# Altium schematic symbol library NXP Semiconductors Sensors.SchLib: 94 symbols (part 3 of 4)
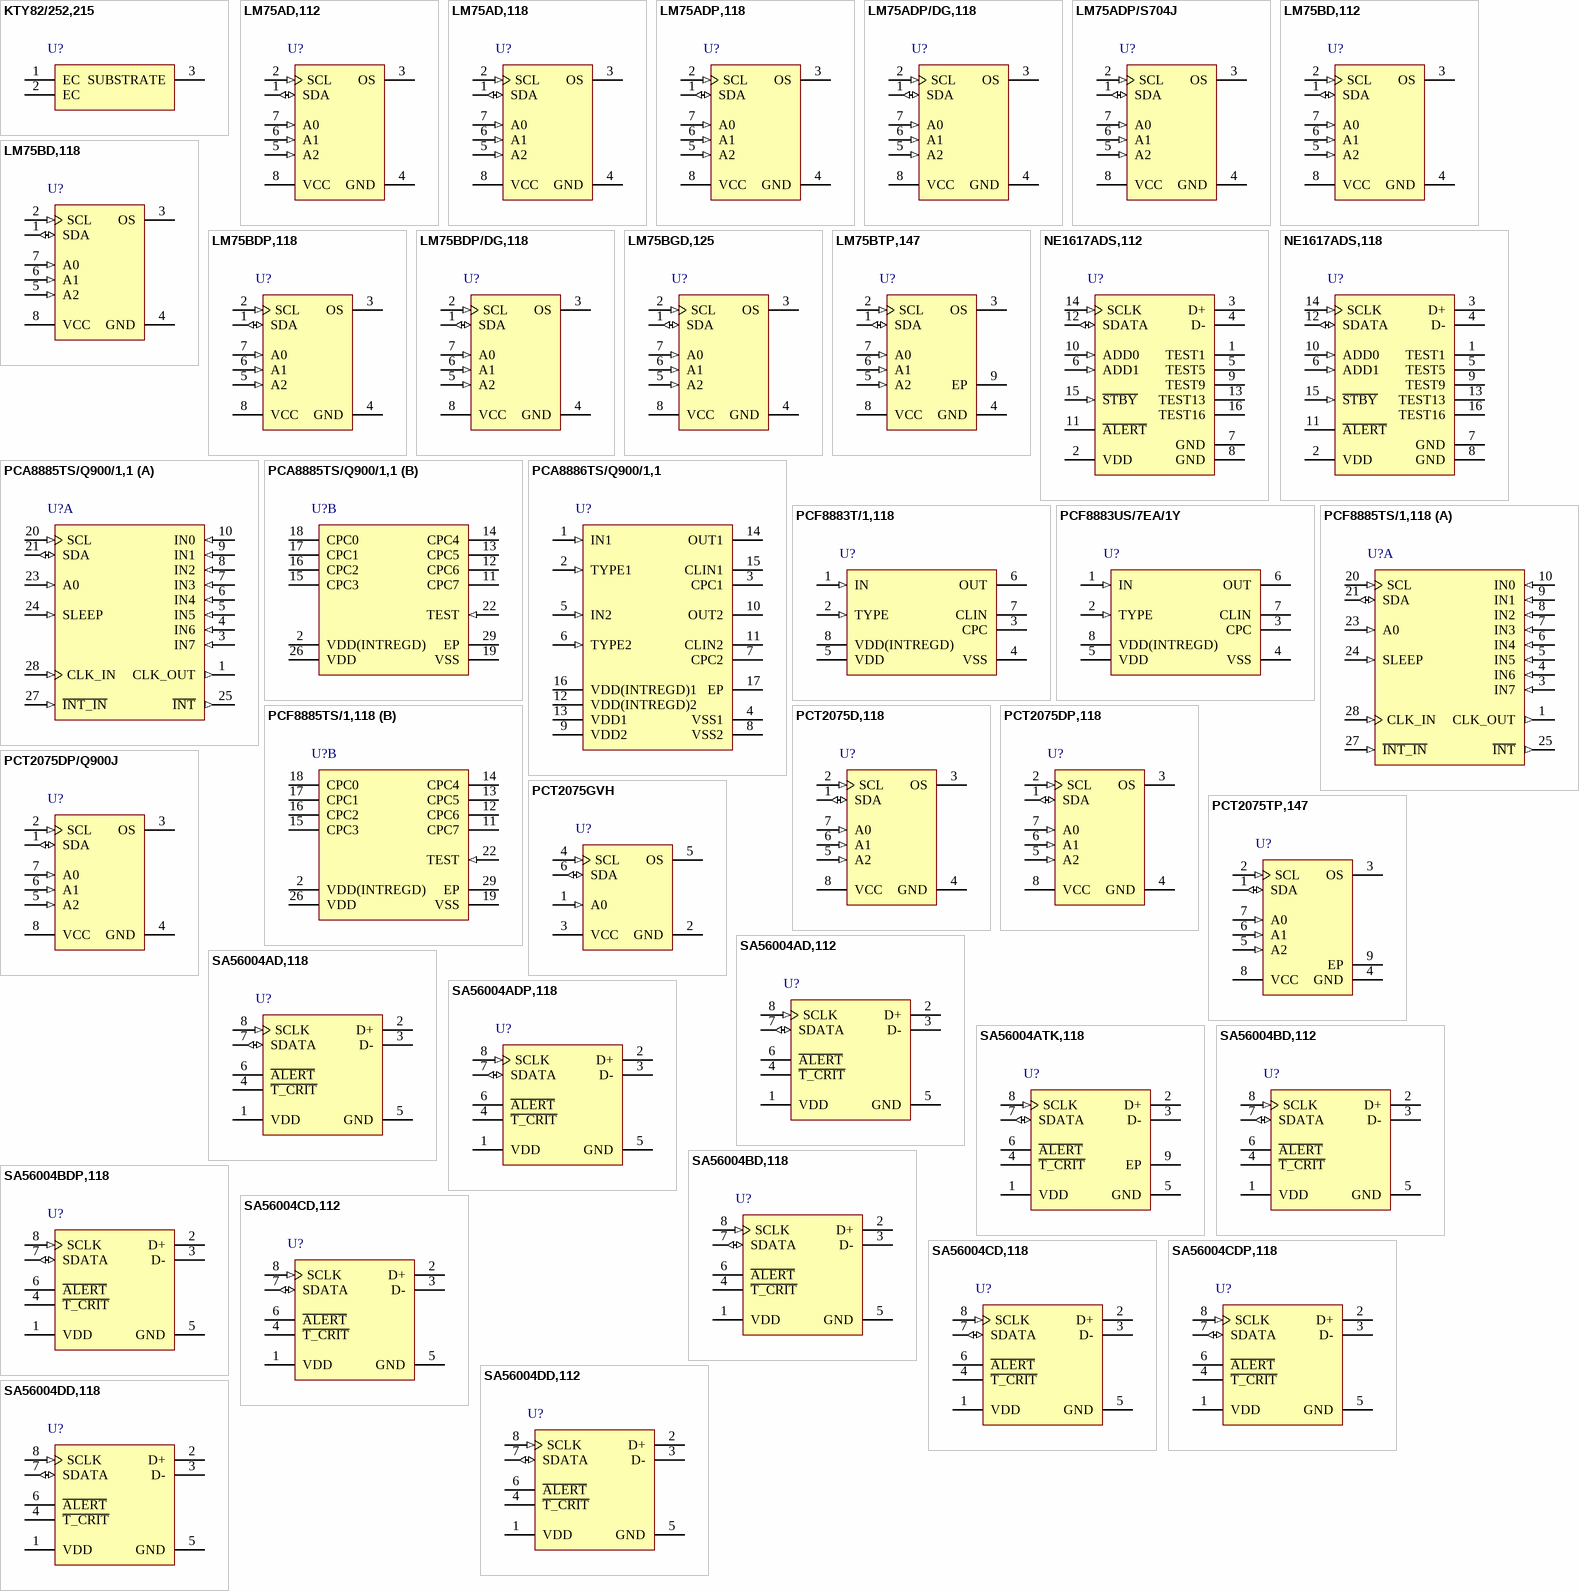
[diagram p4: symbols KTY82/252,215 to SA56004DD,118]

## SA56004AD,118
designator U?
SMBus-Compatible, Remote / Local Digital Temperature Sensor with Overtemperature Alarms, 3.0 to 5.5 V Supply, -40 to 125 degC, 8-Pin SOT96-1, RoHS, Reel; Manufacturer: NXP Semiconductors; PartNumber: SA56004AD,118; Accuracy on-chip (degC): 2@60 to 100 / 3@-40 to 125; Accuracy remote (degC): 1@60 to 100 / 3@-40 to 125; Assignable addresses: 1; SMBus clock (kHz): 400; Standby current (uA): 10; Code_IEC: 76000; DatasheetVersion: Rev. 7; PackageVersion: 03-02-18, 02/2003; PackageReference: SOT96-1; PackageDescription: 8-Pin Plastic Small Outline Package, Body 4.9 x 3.9 mm, Pitch 1.27 mm; Supplier 1: Digi-Key; Supplier Part Number 1: SA56004AD,118-ND; Supplier 2: Mouser; Supplier Part Number 2: 771-SA56004AD118; Operating Voltage (VDC): 3.0 to 5.5; Packing: Reel; Mounting Technology: Surface Mount; Code_JEDEC: MS-012; ComponentLink1Description: Manufacturer URL; ComponentLink1URL: http://www.nxp.com/; ComponentLink2Description: Datasheet; ComponentLink2URL: http://www.nxp.com/documents/data_sheet/SA56004X.pdf; ComponentLink3Description: Package Specification; ComponentLink3URL: http://www.nxp.com/documents/outline_drawing/sot096-1_po.pdf
footprint NXP-SOT96-1_N (SOIC, 8-Leads, Body 5x4mm, Pitch 1.27mm, IPC Medium Density)
footprint NXP-SOT96-1_L (SOIC, 8-Leads, Body 5x4mm, Pitch 1.27mm, IPC High Density)
footprint NXP-SOT96-1_M (SOIC, 8-Leads, Body 5x4mm, Pitch 1.27mm, IPC Low Density)
pins: 1 VDD (power) "Positive supply voltage. DC voltage from 3.0 V to 5.5 V.", 2 D+ "Diode current source (anode).", 3 D- "Diode sink current (cathode).", 4 ~{T_CRIT} (oc) "T\_\C\R\I\T\ alarm is open-drain, active LOW output which requires an external pull-up resistor. It functions as a system interrupt or power shutdown.", 5 GND (power) "Power supply ground.", 6 ~{ALERT} (oc) "A\L\E\R\T\ alarm is an open-drain, active LOW output which requires an external pull-up resistor. It functions as an interrupt indicating that the temperature of the on-chip or remote diode is above or below programmed (See Datasheet)", 7 SDATA (io) "SMBus/I2C-bus bidirectional data line. This is an open-drain output which requires an external pull-up resistor.", 8 SCLK (in) "SMBus/I2C-bus clock input which requires an external pull-up resistor."

## SA56004ADP,118
designator U?
SMBus-Compatible, Remote / Local Digital Temperature Sensor with Overtemperature Alarms, 3.0 to 5.5 V Supply, -40 to 125 degC, 8-Pin SOT505-1, RoHS, Reel; Manufacturer: NXP Semiconductors; PartNumber: SA56004ADP,118; Accuracy on-chip (degC): 2@60 to 100 / 3@-40 to 125; Accuracy remote (degC): 1@60 to 100 / 3@-40 to 125; Assignable addresses: 1; SMBus clock (kHz): 400; Standby current (uA): 10; DatasheetVersion: Rev. 7; PackageVersion: 03-02-18, 02/2003; PackageReference: SOT505-1; PackageDescription: 8-Pin Plastic Thin Shrink Small Outline Package, Body 3 x 3 mm, Pitch 0.65 mm; Supplier 1: Digi-Key; Supplier Part Number 1: 568-3330-2-ND; Supplier 2: Digi-Key; Supplier Part Number 2: 568-3330-1-ND; Supplier 3: Digi-Key; Supplier Part Number 3: 568-3330-6-ND; Supplier 4: Mouser; Supplier Part Number 4: 771-SA56004ADP-T; Operating Voltage (VDC): 3.0 to 5.5; Packing: Reel; Mounting Technology: Surface Mount; ComponentLink1Description: Manufacturer URL; ComponentLink1URL: http://www.nxp.com/; ComponentLink2Description: Datasheet; ComponentLink2URL: http://www.nxp.com/documents/data_sheet/SA56004X.pdf; ComponentLink3Description: Package Specification; ComponentLink3URL: http://www.nxp.com/documents/outline_drawing/sot505-1_po.pdf
footprint NXP-SOT505-1_N (TSOP, 8-Leads, Body 3.1x3.1mm, Pitch 0.65mm, IPC Medium Density)
footprint NXP-SOT505-1_L (TSOP, 8-Leads, Body 3.1x3.1mm, Pitch 0.65mm, IPC High Density)
footprint NXP-SOT505-1_M (TSOP, 8-Leads, Body 3.1x3.1mm, Pitch 0.65mm, IPC Low Density)
pins: 1 VDD (power) "Positive supply voltage. DC voltage from 3.0 V to 5.5 V.", 2 D+ "Diode current source (anode).", 3 D- "Diode sink current (cathode).", 4 ~{T_CRIT} (oc) "T\_\C\R\I\T\ alarm is open-drain, active LOW output which requires an external pull-up resistor. It functions as a system interrupt or power shutdown.", 5 GND (power) "Power supply ground.", 6 ~{ALERT} (oc) "A\L\E\R\T\ alarm is an open-drain, active LOW output which requires an external pull-up resistor. It functions as an interrupt indicating that the temperature of the on-chip or remote diode is above or below programmed (See Datasheet)", 7 SDATA (io) "SMBus/I2C-bus bidirectional data line. This is an open-drain output which requires an external pull-up resistor.", 8 SCLK (in) "SMBus/I2C-bus clock input which requires an external pull-up resistor."

## SA56004ATK,118
designator U?
SMBus-Compatible, Remote / Local Digital Temperature Sensor with Overtemperature Alarms, 3.0 to 5.5 V Supply, -40 to 125 degC, 8-Pin SOT782-1, RoHS, Reel; Manufacturer: NXP Semiconductors; PartNumber: SA56004ATK,118; Accuracy on-chip (degC): 2@60 to 100 / 3@-40 to 125; Accuracy remote (degC): 1@60 to 100 / 3@-40 to 125; Assignable addresses: 1; SMBus clock (kHz): 400; Standby current (uA): 10; DatasheetVersion: Rev. 7; PackageVersion: 09-08-28, 08/2009; PackageReference: SOT782-1; PackageDescription: 8-Pin Plastic Thermal Enhanced Very Thin Small Outline Package, Body 3 x 3 mm, Pitch 0.65 mm, Thermal Pad 2.4 x 1.6 mm; Supplier 1: Digi-Key; Supplier Part Number 1: 568-7580-2-ND; Supplier 2: Digi-Key; Supplier Part Number 2: 568-7580-1-ND; Supplier 3: Digi-Key; Supplier Part Number 3: 568-7580-6-ND; Supplier 4: Mouser; Supplier Part Number 4: 771-SA56004ATK,118; Operating Voltage (VDC): 3.0 to 5.5; Packing: Reel; Mounting Technology: Surface Mount; Code_JEDEC: MO-229; ComponentLink1Description: Manufacturer URL; ComponentLink1URL: http://www.nxp.com/; ComponentLink2Description: Datasheet; ComponentLink2URL: http://www.nxp.com/documents/data_sheet/SA56004X.pdf; ComponentLink3Description: Package Specification; ComponentLink3URL: http://www.nxp.com/documents/outline_drawing/sot782-1_po.pdf
footprint NXP-SOT782-1_N (PSON, 8-Leads, Body 3.1x3.1mm, Pitch 0.65mm, Thermal Pad 2.4x1.6mm, IPC Medium Density)
footprint NXP-SOT782-1_L (PSON, 8-Leads, Body 3.1x3.1mm, Pitch 0.65mm, Thermal Pad 2.4x1.6mm, IPC High Density)
footprint NXP-SOT782-1_M (PSON, 8-Leads, Body 3.1x3.1mm, Pitch 0.65mm, Thermal Pad 2.4x1.6mm, IPC Low Density)
pins: 1 VDD (power) "Positive supply voltage. DC voltage from 3.0 V to 5.5 V.", 2 D+ "Diode current source (anode).", 3 D- "Diode sink current (cathode).", 4 ~{T_CRIT} (oc) "T\_\C\R\I\T\ alarm is open-drain, active LOW output which requires an external pull-up resistor. It functions as a system interrupt or power shutdown.", 5 GND (power) "Power supply ground.", 6 ~{ALERT} (oc) "A\L\E\R\T\ alarm is an open-drain, active LOW output which requires an external pull-up resistor. It functions as an interrupt indicating that the temperature of the on-chip or remote diode is above or below programmed (See Datasheet)", 7 SDATA (io) "SMBus/I2C-bus bidirectional data line. This is an open-drain output which requires an external pull-up resistor.", 8 SCLK (in) "SMBus/I2C-bus clock input which requires an external pull-up resistor.", 9 EP

## SA56004BD,112
designator U?
SMBus-Compatible, Remote / Local Digital Temperature Sensor with Overtemperature Alarms, 3.0 to 5.5 V Supply, -40 to 125 degC, 8-Pin SOT96-1, RoHS, Tube, Bulk; Manufacturer: NXP Semiconductors; PartNumber: SA56004BD,112; Accuracy on-chip (degC): 2@60 to 100 / 3@-40 to 125; Accuracy remote (degC): 1@60 to 100 / 3@-40 to 125; Assignable addresses: 1; SMBus clock (kHz): 400; Standby current (uA): 10; Code_IEC: 76000; DatasheetVersion: Rev. 7; PackageVersion: 03-02-18, 02/2003; PackageReference: SOT96-1; PackageDescription: 8-Pin Plastic Small Outline Package, Body 4.9 x 3.9 mm, Pitch 1.27 mm; Supplier 1: Digi-Key; Supplier Part Number 1: 568-3331-5-ND; Supplier 2: Mouser; Supplier Part Number 2: 771-SA56004BD112; Operating Voltage (VDC): 3.0 to 5.5; Packing: Tube, Bulk; Mounting Technology: Surface Mount; Code_JEDEC: MS-012; ComponentLink1Description: Manufacturer URL; ComponentLink1URL: http://www.nxp.com/; ComponentLink2Description: Datasheet; ComponentLink2URL: http://www.nxp.com/documents/data_sheet/SA56004X.pdf; ComponentLink3Description: Package Specification; ComponentLink3URL: http://www.nxp.com/documents/outline_drawing/sot096-1_po.pdf
footprint NXP-SOT96-1_N (SOIC, 8-Leads, Body 5x4mm, Pitch 1.27mm, IPC Medium Density)
footprint NXP-SOT96-1_L (SOIC, 8-Leads, Body 5x4mm, Pitch 1.27mm, IPC High Density)
footprint NXP-SOT96-1_M (SOIC, 8-Leads, Body 5x4mm, Pitch 1.27mm, IPC Low Density)
pins: 1 VDD (power) "Positive supply voltage. DC voltage from 3.0 V to 5.5 V.", 2 D+ "Diode current source (anode).", 3 D- "Diode sink current (cathode).", 4 ~{T_CRIT} (oc) "T\_\C\R\I\T\ alarm is open-drain, active LOW output which requires an external pull-up resistor. It functions as a system interrupt or power shutdown.", 5 GND (power) "Power supply ground.", 6 ~{ALERT} (oc) "A\L\E\R\T\ alarm is an open-drain, active LOW output which requires an external pull-up resistor. It functions as an interrupt indicating that the temperature of the on-chip or remote diode is above or below programmed (See Datasheet)", 7 SDATA (io) "SMBus/I2C-bus bidirectional data line. This is an open-drain output which requires an external pull-up resistor.", 8 SCLK (in) "SMBus/I2C-bus clock input which requires an external pull-up resistor."

## SA56004BD,118
designator U?
SMBus-Compatible, Remote / Local Digital Temperature Sensor with Overtemperature Alarms, 3.0 to 5.5 V Supply, -40 to 125 degC, 8-Pin SOT96-1, RoHS, Reel; Manufacturer: NXP Semiconductors; PartNumber: SA56004BD,118; Accuracy on-chip (degC): 2@60 to 100 / 3@-40 to 125; Accuracy remote (degC): 1@60 to 100 / 3@-40 to 125; Assignable addresses: 1; SMBus clock (kHz): 400; Standby current (uA): 10; Code_IEC: 76000; DatasheetVersion: Rev. 7; PackageVersion: 03-02-18, 02/2003; PackageReference: SOT96-1; PackageDescription: 8-Pin Plastic Small Outline Package, Body 4.9 x 3.9 mm, Pitch 1.27 mm; Supplier 1: Digi-Key; Supplier Part Number 1: SA56004BD,118-ND; Supplier 2: Mouser; Supplier Part Number 2: 771-SA56004BD118; Operating Voltage (VDC): 3.0 to 5.5; Packing: Reel; Mounting Technology: Surface Mount; Code_JEDEC: MS-012; ComponentLink1Description: Manufacturer URL; ComponentLink1URL: http://www.nxp.com/; ComponentLink2Description: Datasheet; ComponentLink2URL: http://www.nxp.com/documents/data_sheet/SA56004X.pdf; ComponentLink3Description: Package Specification; ComponentLink3URL: http://www.nxp.com/documents/outline_drawing/sot096-1_po.pdf
footprint NXP-SOT96-1_N (SOIC, 8-Leads, Body 5x4mm, Pitch 1.27mm, IPC Medium Density)
footprint NXP-SOT96-1_L (SOIC, 8-Leads, Body 5x4mm, Pitch 1.27mm, IPC High Density)
footprint NXP-SOT96-1_M (SOIC, 8-Leads, Body 5x4mm, Pitch 1.27mm, IPC Low Density)
pins: 1 VDD (power) "Positive supply voltage. DC voltage from 3.0 V to 5.5 V.", 2 D+ "Diode current source (anode).", 3 D- "Diode sink current (cathode).", 4 ~{T_CRIT} (oc) "T\_\C\R\I\T\ alarm is open-drain, active LOW output which requires an external pull-up resistor. It functions as a system interrupt or power shutdown.", 5 GND (power) "Power supply ground.", 6 ~{ALERT} (oc) "A\L\E\R\T\ alarm is an open-drain, active LOW output which requires an external pull-up resistor. It functions as an interrupt indicating that the temperature of the on-chip or remote diode is above or below programmed (See Datasheet)", 7 SDATA (io) "SMBus/I2C-bus bidirectional data line. This is an open-drain output which requires an external pull-up resistor.", 8 SCLK (in) "SMBus/I2C-bus clock input which requires an external pull-up resistor."

## SA56004BDP,118
designator U?
SMBus-Compatible, Remote / Local Digital Temperature Sensor with Overtemperature Alarms, 3.0 to 5.5 V Supply, -40 to 125 degC, 8-Pin SOT505-1, RoHS, Reel; Manufacturer: NXP Semiconductors; PartNumber: SA56004BDP,118; Accuracy on-chip (degC): 2@60 to 100 / 3@-40 to 125; Accuracy remote (degC): 1@60 to 100 / 3@-40 to 125; Assignable addresses: 1; SMBus clock (kHz): 400; Standby current (uA): 10; DatasheetVersion: Rev. 7; PackageVersion: 03-02-18, 02/2003; PackageReference: SOT505-1; PackageDescription: 8-Pin Plastic Thin Shrink Small Outline Package, Body 3 x 3 mm, Pitch 0.65 mm; Supplier 1: Digi-Key; Supplier Part Number 1: 568-3332-2-ND; Supplier 2: Digi-Key; Supplier Part Number 2: 568-3332-1-ND; Supplier 3: Digi-Key; Supplier Part Number 3: 568-3332-6-ND; Supplier 4: Mouser; Supplier Part Number 4: 771-SA56004BDP118; Operating Voltage (VDC): 3.0 to 5.5; Packing: Reel; Mounting Technology: Surface Mount; ComponentLink1Description: Manufacturer URL; ComponentLink1URL: http://www.nxp.com/; ComponentLink2Description: Datasheet; ComponentLink2URL: http://www.nxp.com/documents/data_sheet/SA56004X.pdf; ComponentLink3Description: Package Specification; ComponentLink3URL: http://www.nxp.com/documents/outline_drawing/sot505-1_po.pdf
footprint NXP-SOT505-1_N (TSOP, 8-Leads, Body 3.1x3.1mm, Pitch 0.65mm, IPC Medium Density)
footprint NXP-SOT505-1_L (TSOP, 8-Leads, Body 3.1x3.1mm, Pitch 0.65mm, IPC High Density)
footprint NXP-SOT505-1_M (TSOP, 8-Leads, Body 3.1x3.1mm, Pitch 0.65mm, IPC Low Density)
pins: 1 VDD (power) "Positive supply voltage. DC voltage from 3.0 V to 5.5 V.", 2 D+ "Diode current source (anode).", 3 D- "Diode sink current (cathode).", 4 ~{T_CRIT} (oc) "T\_\C\R\I\T\ alarm is open-drain, active LOW output which requires an external pull-up resistor. It functions as a system interrupt or power shutdown.", 5 GND (power) "Power supply ground.", 6 ~{ALERT} (oc) "A\L\E\R\T\ alarm is an open-drain, active LOW output which requires an external pull-up resistor. It functions as an interrupt indicating that the temperature of the on-chip or remote diode is above or below programmed (See Datasheet)", 7 SDATA (io) "SMBus/I2C-bus bidirectional data line. This is an open-drain output which requires an external pull-up resistor.", 8 SCLK (in) "SMBus/I2C-bus clock input which requires an external pull-up resistor."

## SA56004CD,112
designator U?
SMBus-Compatible, Remote / Local Digital Temperature Sensor with Overtemperature Alarms, 3.0 to 5.5 V Supply, -40 to 125 degC, 8-Pin SOT96-1, RoHS, Tube, Bulk; Manufacturer: NXP Semiconductors; PartNumber: SA56004CD,112; Accuracy on-chip (degC): 2@60 to 100 / 3@-40 to 125; Accuracy remote (degC): 1@60 to 100 / 3@-40 to 125; Assignable addresses: 1; SMBus clock (kHz): 400; Standby current (uA): 10; Code_IEC: 76000; DatasheetVersion: Rev. 7; PackageVersion: 03-02-18, 02/2003; PackageReference: SOT96-1; PackageDescription: 8-Pin Plastic Small Outline Package, Body 4.9 x 3.9 mm, Pitch 1.27 mm; Supplier 1: Digi-Key; Supplier Part Number 1: 568-3333-5-ND; Supplier 2: Mouser; Supplier Part Number 2: 771-SA56004CD112; Operating Voltage (VDC): 3.0 to 5.5; Packing: Tube, Bulk; Mounting Technology: Surface Mount; Code_JEDEC: MS-012; ComponentLink1Description: Manufacturer URL; ComponentLink1URL: http://www.nxp.com/; ComponentLink2Description: Datasheet; ComponentLink2URL: http://www.nxp.com/documents/data_sheet/SA56004X.pdf; ComponentLink3Description: Package Specification; ComponentLink3URL: http://www.nxp.com/documents/outline_drawing/sot096-1_po.pdf
footprint NXP-SOT96-1_N (SOIC, 8-Leads, Body 5x4mm, Pitch 1.27mm, IPC Medium Density)
footprint NXP-SOT96-1_L (SOIC, 8-Leads, Body 5x4mm, Pitch 1.27mm, IPC High Density)
footprint NXP-SOT96-1_M (SOIC, 8-Leads, Body 5x4mm, Pitch 1.27mm, IPC Low Density)
pins: 1 VDD (power) "Positive supply voltage. DC voltage from 3.0 V to 5.5 V.", 2 D+ "Diode current source (anode).", 3 D- "Diode sink current (cathode).", 4 ~{T_CRIT} (oc) "T\_\C\R\I\T\ alarm is open-drain, active LOW output which requires an external pull-up resistor. It functions as a system interrupt or power shutdown.", 5 GND (power) "Power supply ground.", 6 ~{ALERT} (oc) "A\L\E\R\T\ alarm is an open-drain, active LOW output which requires an external pull-up resistor. It functions as an interrupt indicating that the temperature of the on-chip or remote diode is above or below programmed (See Datasheet)", 7 SDATA (io) "SMBus/I2C-bus bidirectional data line. This is an open-drain output which requires an external pull-up resistor.", 8 SCLK (in) "SMBus/I2C-bus clock input which requires an external pull-up resistor."

## SA56004CD,118
designator U?
SMBus-Compatible, Remote / Local Digital Temperature Sensor with Overtemperature Alarms, 3.0 to 5.5 V Supply, -40 to 125 degC, 8-Pin SOT96-1, RoHS, Reel; Manufacturer: NXP Semiconductors; PartNumber: SA56004CD,118; Accuracy on-chip (degC): 2@60 to 100 / 3@-40 to 125; Accuracy remote (degC): 1@60 to 100 / 3@-40 to 125; Assignable addresses: 1; SMBus clock (kHz): 400; Standby current (uA): 10; Code_IEC: 76000; DatasheetVersion: Rev. 7; PackageVersion: 03-02-18, 02/2003; PackageReference: SOT96-1; PackageDescription: 8-Pin Plastic Small Outline Package, Body 4.9 x 3.9 mm, Pitch 1.27 mm; Supplier 1: Digi-Key; Supplier Part Number 1: SA56004CD,118-ND; Supplier 2: Mouser; Supplier Part Number 2: 771-SA56004CD118; Operating Voltage (VDC): 3.0 to 5.5; Packing: Reel; Mounting Technology: Surface Mount; Code_JEDEC: MS-012; ComponentLink1Description: Manufacturer URL; ComponentLink1URL: http://www.nxp.com/; ComponentLink2Description: Datasheet; ComponentLink2URL: http://www.nxp.com/documents/data_sheet/SA56004X.pdf; ComponentLink3Description: Package Specification; ComponentLink3URL: http://www.nxp.com/documents/outline_drawing/sot096-1_po.pdf
footprint NXP-SOT96-1_N (SOIC, 8-Leads, Body 5x4mm, Pitch 1.27mm, IPC Medium Density)
footprint NXP-SOT96-1_L (SOIC, 8-Leads, Body 5x4mm, Pitch 1.27mm, IPC High Density)
footprint NXP-SOT96-1_M (SOIC, 8-Leads, Body 5x4mm, Pitch 1.27mm, IPC Low Density)
pins: 1 VDD (power) "Positive supply voltage. DC voltage from 3.0 V to 5.5 V.", 2 D+ "Diode current source (anode).", 3 D- "Diode sink current (cathode).", 4 ~{T_CRIT} (oc) "T\_\C\R\I\T\ alarm is open-drain, active LOW output which requires an external pull-up resistor. It functions as a system interrupt or power shutdown.", 5 GND (power) "Power supply ground.", 6 ~{ALERT} (oc) "A\L\E\R\T\ alarm is an open-drain, active LOW output which requires an external pull-up resistor. It functions as an interrupt indicating that the temperature of the on-chip or remote diode is above or below programmed (See Datasheet)", 7 SDATA (io) "SMBus/I2C-bus bidirectional data line. This is an open-drain output which requires an external pull-up resistor.", 8 SCLK (in) "SMBus/I2C-bus clock input which requires an external pull-up resistor."

## SA56004CDP,118
designator U?
SMBus-Compatible, Remote / Local Digital Temperature Sensor with Overtemperature Alarms, 3.0 to 5.5 V Supply, -40 to 125 degC, 8-Pin SOT505-1, RoHS, Reel; Manufacturer: NXP Semiconductors; PartNumber: SA56004CDP,118; Accuracy on-chip (degC): 2@60 to 100 / 3@-40 to 125; Accuracy remote (degC): 1@60 to 100 / 3@-40 to 125; Assignable addresses: 1; SMBus clock (kHz): 400; Standby current (uA): 10; DatasheetVersion: Rev. 7; PackageVersion: 03-02-18, 02/2003; PackageReference: SOT505-1; PackageDescription: 8-Pin Plastic Thin Shrink Small Outline Package, Body 3 x 3 mm, Pitch 0.65 mm; Supplier 1: Digi-Key; Supplier Part Number 1: 568-3334-2-ND; Supplier 2: Digi-Key; Supplier Part Number 2: 568-3334-1-ND; Supplier 3: Digi-Key; Supplier Part Number 3: 568-3334-6-ND; Supplier 4: Mouser; Supplier Part Number 4: 771-SA56004CDP118; Operating Voltage (VDC): 3.0 to 5.5; Packing: Reel; Mounting Technology: Surface Mount; ComponentLink1Description: Manufacturer URL; ComponentLink1URL: http://www.nxp.com/; ComponentLink2Description: Datasheet; ComponentLink2URL: http://www.nxp.com/documents/data_sheet/SA56004X.pdf; ComponentLink3Description: Package Specification; ComponentLink3URL: http://www.nxp.com/documents/outline_drawing/sot505-1_po.pdf
footprint NXP-SOT505-1_N (TSOP, 8-Leads, Body 3.1x3.1mm, Pitch 0.65mm, IPC Medium Density)
footprint NXP-SOT505-1_L (TSOP, 8-Leads, Body 3.1x3.1mm, Pitch 0.65mm, IPC High Density)
footprint NXP-SOT505-1_M (TSOP, 8-Leads, Body 3.1x3.1mm, Pitch 0.65mm, IPC Low Density)
pins: 1 VDD (power) "Positive supply voltage. DC voltage from 3.0 V to 5.5 V.", 2 D+ "Diode current source (anode).", 3 D- "Diode sink current (cathode).", 4 ~{T_CRIT} (oc) "T\_\C\R\I\T\ alarm is open-drain, active LOW output which requires an external pull-up resistor. It functions as a system interrupt or power shutdown.", 5 GND (power) "Power supply ground.", 6 ~{ALERT} (oc) "A\L\E\R\T\ alarm is an open-drain, active LOW output which requires an external pull-up resistor. It functions as an interrupt indicating that the temperature of the on-chip or remote diode is above or below programmed (See Datasheet)", 7 SDATA (io) "SMBus/I2C-bus bidirectional data line. This is an open-drain output which requires an external pull-up resistor.", 8 SCLK (in) "SMBus/I2C-bus clock input which requires an external pull-up resistor."

## SA56004DD,112
designator U?
SMBus-Compatible, Remote / Local Digital Temperature Sensor with Overtemperature Alarms, 3.0 to 5.5 V Supply, -40 to 125 degC, 8-Pin SOT96-1, RoHS, Tube, Bulk; Manufacturer: NXP Semiconductors; PartNumber: SA56004DD,112; Accuracy on-chip (degC): 2@60 to 100 / 3@-40 to 125; Accuracy remote (degC): 1@60 to 100 / 3@-40 to 125; Assignable addresses: 1; SMBus clock (kHz): 400; Standby current (uA): 10; Code_IEC: 76000; DatasheetVersion: Rev. 7; PackageVersion: 03-02-18, 02/2003; PackageReference: SOT96-1; PackageDescription: 8-Pin Plastic Small Outline Package, Body 4.9 x 3.9 mm, Pitch 1.27 mm; Supplier 1: Digi-Key; Supplier Part Number 1: 568-3335-5-ND; Supplier 2: Newark; Supplier Part Number 2: 70R8703; Supplier 3: Mouser; Supplier Part Number 3: 771-SA56004DD112; Operating Voltage (VDC): 3.0 to 5.5; Packing: Tube, Bulk; Mounting Technology: Surface Mount; Code_JEDEC: MS-012; ComponentLink1Description: Manufacturer URL; ComponentLink1URL: http://www.nxp.com/; ComponentLink2Description: Datasheet; ComponentLink2URL: http://www.nxp.com/documents/data_sheet/SA56004X.pdf; ComponentLink3Description: Package Specification; ComponentLink3URL: http://www.nxp.com/documents/outline_drawing/sot096-1_po.pdf
footprint NXP-SOT96-1_N (SOIC, 8-Leads, Body 5x4mm, Pitch 1.27mm, IPC Medium Density)
footprint NXP-SOT96-1_L (SOIC, 8-Leads, Body 5x4mm, Pitch 1.27mm, IPC High Density)
footprint NXP-SOT96-1_M (SOIC, 8-Leads, Body 5x4mm, Pitch 1.27mm, IPC Low Density)
pins: 1 VDD (power) "Positive supply voltage. DC voltage from 3.0 V to 5.5 V.", 2 D+ "Diode current source (anode).", 3 D- "Diode sink current (cathode).", 4 ~{T_CRIT} (oc) "T\_\C\R\I\T\ alarm is open-drain, active LOW output which requires an external pull-up resistor. It functions as a system interrupt or power shutdown.", 5 GND (power) "Power supply ground.", 6 ~{ALERT} (oc) "A\L\E\R\T\ alarm is an open-drain, active LOW output which requires an external pull-up resistor. It functions as an interrupt indicating that the temperature of the on-chip or remote diode is above or below programmed (See Datasheet)", 7 SDATA (io) "SMBus/I2C-bus bidirectional data line. This is an open-drain output which requires an external pull-up resistor.", 8 SCLK (in) "SMBus/I2C-bus clock input which requires an external pull-up resistor."

## SA56004DD,118
designator U?
SMBus-Compatible, Remote / Local Digital Temperature Sensor with Overtemperature Alarms, 3.0 to 5.5 V Supply, -40 to 125 degC, 8-Pin SOT96-1, RoHS, Reel; Manufacturer: NXP Semiconductors; PartNumber: SA56004DD,118; Accuracy on-chip (degC): 2@60 to 100 / 3@-40 to 125; Accuracy remote (degC): 1@60 to 100 / 3@-40 to 125; Assignable addresses: 1; SMBus clock (kHz): 400; Standby current (uA): 10; Code_IEC: 76000; DatasheetVersion: Rev. 7; PackageVersion: 03-02-18, 02/2003; PackageReference: SOT96-1; PackageDescription: 8-Pin Plastic Small Outline Package, Body 4.9 x 3.9 mm, Pitch 1.27 mm; Supplier 1: Digi-Key; Supplier Part Number 1: SA56004DD,118-ND; Supplier 2: Mouser; Supplier Part Number 2: 771-SA56004DD118; Operating Voltage (VDC): 3.0 to 5.5; Packing: Reel; Mounting Technology: Surface Mount; Code_JEDEC: MS-012; ComponentLink1Description: Manufacturer URL; ComponentLink1URL: http://www.nxp.com/; ComponentLink2Description: Datasheet; ComponentLink2URL: http://www.nxp.com/documents/data_sheet/SA56004X.pdf; ComponentLink3Description: Package Specification; ComponentLink3URL: http://www.nxp.com/documents/outline_drawing/sot096-1_po.pdf
footprint NXP-SOT96-1_N (SOIC, 8-Leads, Body 5x4mm, Pitch 1.27mm, IPC Medium Density)
footprint NXP-SOT96-1_L (SOIC, 8-Leads, Body 5x4mm, Pitch 1.27mm, IPC High Density)
footprint NXP-SOT96-1_M (SOIC, 8-Leads, Body 5x4mm, Pitch 1.27mm, IPC Low Density)
pins: 1 VDD (power) "Positive supply voltage. DC voltage from 3.0 V to 5.5 V.", 2 D+ "Diode current source (anode).", 3 D- "Diode sink current (cathode).", 4 ~{T_CRIT} (oc) "T\_\C\R\I\T\ alarm is open-drain, active LOW output which requires an external pull-up resistor. It functions as a system interrupt or power shutdown.", 5 GND (power) "Power supply ground.", 6 ~{ALERT} (oc) "A\L\E\R\T\ alarm is an open-drain, active LOW output which requires an external pull-up resistor. It functions as an interrupt indicating that the temperature of the on-chip or remote diode is above or below programmed (See Datasheet)", 7 SDATA (io) "SMBus/I2C-bus bidirectional data line. This is an open-drain output which requires an external pull-up resistor.", 8 SCLK (in) "SMBus/I2C-bus clock input which requires an external pull-up resistor."

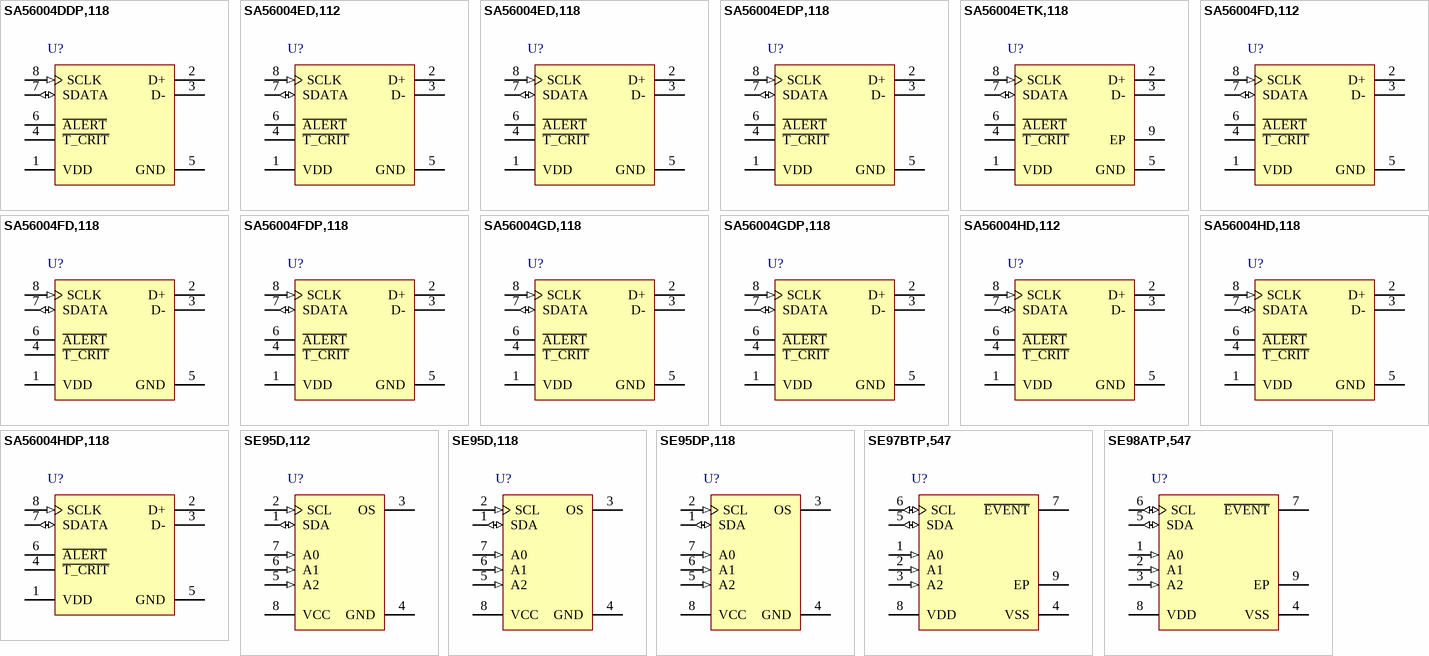
[diagram p2: symbols SA56004DDP,118 to SE98ATP,547]

## SA56004DDP,118
designator U?
SMBus-Compatible, Remote / Local Digital Temperature Sensor with Overtemperature Alarms, 3.0 to 5.5 V Supply, -40 to 125 degC, 8-Pin SOT505-1, RoHS, Reel; Manufacturer: NXP Semiconductors; PartNumber: SA56004DDP,118; Accuracy on-chip (degC): 2@60 to 100 / 3@-40 to 125; Accuracy remote (degC): 1@60 to 100 / 3@-40 to 125; Assignable addresses: 1; SMBus clock (kHz): 400; Standby current (uA): 10; DatasheetVersion: Rev. 7; PackageVersion: 03-02-18, 02/2003; PackageReference: SOT505-1; PackageDescription: 8-Pin Plastic Thin Shrink Small Outline Package, Body 3 x 3 mm, Pitch 0.65 mm; Supplier 1: Digi-Key; Supplier Part Number 1: 568-3336-2-ND; Supplier 2: Digi-Key; Supplier Part Number 2: 568-3336-1-ND; Supplier 3: Digi-Key; Supplier Part Number 3: 568-3336-6-ND; Supplier 4: Newark; Supplier Part Number 4: 70R8705; Supplier 5: Mouser; Supplier Part Number 5: 771-SA56004DDP118; Operating Voltage (VDC): 3.0 to 5.5; Packing: Reel; Mounting Technology: Surface Mount; ComponentLink1Description: Manufacturer URL; ComponentLink1URL: http://www.nxp.com/; ComponentLink2Description: Datasheet; ComponentLink2URL: http://www.nxp.com/documents/data_sheet/SA56004X.pdf; ComponentLink3Description: Package Specification; ComponentLink3URL: http://www.nxp.com/documents/outline_drawing/sot505-1_po.pdf
footprint NXP-SOT505-1_N (TSOP, 8-Leads, Body 3.1x3.1mm, Pitch 0.65mm, IPC Medium Density)
footprint NXP-SOT505-1_L (TSOP, 8-Leads, Body 3.1x3.1mm, Pitch 0.65mm, IPC High Density)
footprint NXP-SOT505-1_M (TSOP, 8-Leads, Body 3.1x3.1mm, Pitch 0.65mm, IPC Low Density)
pins: 1 VDD (power) "Positive supply voltage. DC voltage from 3.0 V to 5.5 V.", 2 D+ "Diode current source (anode).", 3 D- "Diode sink current (cathode).", 4 ~{T_CRIT} (oc) "T\_\C\R\I\T\ alarm is open-drain, active LOW output which requires an external pull-up resistor. It functions as a system interrupt or power shutdown.", 5 GND (power) "Power supply ground.", 6 ~{ALERT} (oc) "A\L\E\R\T\ alarm is an open-drain, active LOW output which requires an external pull-up resistor. It functions as an interrupt indicating that the temperature of the on-chip or remote diode is above or below programmed (See Datasheet)", 7 SDATA (io) "SMBus/I2C-bus bidirectional data line. This is an open-drain output which requires an external pull-up resistor.", 8 SCLK (in) "SMBus/I2C-bus clock input which requires an external pull-up resistor."

## SA56004ED,112
designator U?
SMBus-Compatible, Remote / Local Digital Temperature Sensor with Overtemperature Alarms, 3.0 to 5.5 V Supply, -40 to 125 degC, 8-Pin SOT96-1, RoHS, Tube, Bulk; Manufacturer: NXP Semiconductors; PartNumber: SA56004ED,112; Accuracy on-chip (degC): 2@60 to 100 / 3@-40 to 125; Accuracy remote (degC): 1@60 to 100 / 3@-40 to 125; Assignable addresses: 1; SMBus clock (kHz): 400; Standby current (uA): 10; Code_IEC: 76000; DatasheetVersion: Rev. 7; PackageVersion: 03-02-18, 02/2003; PackageReference: SOT96-1; PackageDescription: 8-Pin Plastic Small Outline Package, Body 4.9 x 3.9 mm, Pitch 1.27 mm; Supplier 1: Digi-Key; Supplier Part Number 1: 568-3337-5-ND; Supplier 2: Mouser; Supplier Part Number 2: 771-SA56004ED112; Operating Voltage (VDC): 3.0 to 5.5; Packing: Tube, Bulk; Mounting Technology: Surface Mount; Code_JEDEC: MS-012; ComponentLink1Description: Manufacturer URL; ComponentLink1URL: http://www.nxp.com/; ComponentLink2Description: Datasheet; ComponentLink2URL: http://www.nxp.com/documents/data_sheet/SA56004X.pdf; ComponentLink3Description: Package Specification; ComponentLink3URL: http://www.nxp.com/documents/outline_drawing/sot096-1_po.pdf
footprint NXP-SOT96-1_N (SOIC, 8-Leads, Body 5x4mm, Pitch 1.27mm, IPC Medium Density)
footprint NXP-SOT96-1_L (SOIC, 8-Leads, Body 5x4mm, Pitch 1.27mm, IPC High Density)
footprint NXP-SOT96-1_M (SOIC, 8-Leads, Body 5x4mm, Pitch 1.27mm, IPC Low Density)
pins: 1 VDD (power) "Positive supply voltage. DC voltage from 3.0 V to 5.5 V.", 2 D+ "Diode current source (anode).", 3 D- "Diode sink current (cathode).", 4 ~{T_CRIT} (oc) "T\_\C\R\I\T\ alarm is open-drain, active LOW output which requires an external pull-up resistor. It functions as a system interrupt or power shutdown.", 5 GND (power) "Power supply ground.", 6 ~{ALERT} (oc) "A\L\E\R\T\ alarm is an open-drain, active LOW output which requires an external pull-up resistor. It functions as an interrupt indicating that the temperature of the on-chip or remote diode is above or below programmed (See Datasheet)", 7 SDATA (io) "SMBus/I2C-bus bidirectional data line. This is an open-drain output which requires an external pull-up resistor.", 8 SCLK (in) "SMBus/I2C-bus clock input which requires an external pull-up resistor."

## SA56004ED,118
designator U?
SMBus-Compatible, Remote / Local Digital Temperature Sensor with Overtemperature Alarms, 3.0 to 5.5 V Supply, -40 to 125 degC, 8-Pin SOT96-1, RoHS, Reel; Manufacturer: NXP Semiconductors; PartNumber: SA56004ED,118; Accuracy on-chip (degC): 2@60 to 100 / 3@-40 to 125; Accuracy remote (degC): 1@60 to 100 / 3@-40 to 125; Assignable addresses: 1; SMBus clock (kHz): 400; Standby current (uA): 10; Code_IEC: 76000; DatasheetVersion: Rev. 7; PackageVersion: 03-02-18, 02/2003; PackageReference: SOT96-1; PackageDescription: 8-Pin Plastic Small Outline Package, Body 4.9 x 3.9 mm, Pitch 1.27 mm; Supplier 1: Digi-Key; Supplier Part Number 1: SA56004ED,118-ND; Supplier 2: Mouser; Supplier Part Number 2: 771-SA56004ED118; Operating Voltage (VDC): 3.0 to 5.5; Packing: Reel; Mounting Technology: Surface Mount; Code_JEDEC: MS-012; ComponentLink1Description: Manufacturer URL; ComponentLink1URL: http://www.nxp.com/; ComponentLink2Description: Datasheet; ComponentLink2URL: http://www.nxp.com/documents/data_sheet/SA56004X.pdf; ComponentLink3Description: Package Specification; ComponentLink3URL: http://www.nxp.com/documents/outline_drawing/sot096-1_po.pdf
footprint NXP-SOT96-1_N (SOIC, 8-Leads, Body 5x4mm, Pitch 1.27mm, IPC Medium Density)
footprint NXP-SOT96-1_L (SOIC, 8-Leads, Body 5x4mm, Pitch 1.27mm, IPC High Density)
footprint NXP-SOT96-1_M (SOIC, 8-Leads, Body 5x4mm, Pitch 1.27mm, IPC Low Density)
pins: 1 VDD (power) "Positive supply voltage. DC voltage from 3.0 V to 5.5 V.", 2 D+ "Diode current source (anode).", 3 D- "Diode sink current (cathode).", 4 ~{T_CRIT} (oc) "T\_\C\R\I\T\ alarm is open-drain, active LOW output which requires an external pull-up resistor. It functions as a system interrupt or power shutdown.", 5 GND (power) "Power supply ground.", 6 ~{ALERT} (oc) "A\L\E\R\T\ alarm is an open-drain, active LOW output which requires an external pull-up resistor. It functions as an interrupt indicating that the temperature of the on-chip or remote diode is above or below programmed (See Datasheet)", 7 SDATA (io) "SMBus/I2C-bus bidirectional data line. This is an open-drain output which requires an external pull-up resistor.", 8 SCLK (in) "SMBus/I2C-bus clock input which requires an external pull-up resistor."

## SA56004EDP,118
designator U?
SMBus-Compatible, Remote / Local Digital Temperature Sensor with Overtemperature Alarms, 3.0 to 5.5 V Supply, -40 to 125 degC, 8-Pin SOT505-1, RoHS, Reel; Manufacturer: NXP Semiconductors; PartNumber: SA56004EDP,118; Accuracy on-chip (degC): 2@60 to 100 / 3@-40 to 125; Accuracy remote (degC): 1@60 to 100 / 3@-40 to 125; Assignable addresses: 1; SMBus clock (kHz): 400; Standby current (uA): 10; DatasheetVersion: Rev. 7; PackageVersion: 03-02-18, 02/2003; PackageReference: SOT505-1; PackageDescription: 8-Pin Plastic Thin Shrink Small Outline Package, Body 3 x 3 mm, Pitch 0.65 mm; Supplier 1: Digi-Key; Supplier Part Number 1: 568-3338-2-ND; Supplier 2: Digi-Key; Supplier Part Number 2: 568-3338-1-ND; Supplier 3: Digi-Key; Supplier Part Number 3: 568-3338-6-ND; Supplier 4: Newark; Supplier Part Number 4: 70R8708; Supplier 5: Mouser; Supplier Part Number 5: 771-SA56004EDP118; Operating Voltage (VDC): 3.0 to 5.5; Packing: Reel; Mounting Technology: Surface Mount; ComponentLink1Description: Manufacturer URL; ComponentLink1URL: http://www.nxp.com/; ComponentLink2Description: Datasheet; ComponentLink2URL: http://www.nxp.com/documents/data_sheet/SA56004X.pdf; ComponentLink3Description: Package Specification; ComponentLink3URL: http://www.nxp.com/documents/outline_drawing/sot505-1_po.pdf
footprint NXP-SOT505-1_N (TSOP, 8-Leads, Body 3.1x3.1mm, Pitch 0.65mm, IPC Medium Density)
footprint NXP-SOT505-1_L (TSOP, 8-Leads, Body 3.1x3.1mm, Pitch 0.65mm, IPC High Density)
footprint NXP-SOT505-1_M (TSOP, 8-Leads, Body 3.1x3.1mm, Pitch 0.65mm, IPC Low Density)
pins: 1 VDD (power) "Positive supply voltage. DC voltage from 3.0 V to 5.5 V.", 2 D+ "Diode current source (anode).", 3 D- "Diode sink current (cathode).", 4 ~{T_CRIT} (oc) "T\_\C\R\I\T\ alarm is open-drain, active LOW output which requires an external pull-up resistor. It functions as a system interrupt or power shutdown.", 5 GND (power) "Power supply ground.", 6 ~{ALERT} (oc) "A\L\E\R\T\ alarm is an open-drain, active LOW output which requires an external pull-up resistor. It functions as an interrupt indicating that the temperature of the on-chip or remote diode is above or below programmed (See Datasheet)", 7 SDATA (io) "SMBus/I2C-bus bidirectional data line. This is an open-drain output which requires an external pull-up resistor.", 8 SCLK (in) "SMBus/I2C-bus clock input which requires an external pull-up resistor."

## SA56004ETK,118
designator U?
SMBus-Compatible, Remote / Local Digital Temperature Sensor with Overtemperature Alarms, 3.0 to 5.5 V Supply, -40 to 125 degC, 8-Pin SOT782-1, RoHS, Reel; Manufacturer: NXP Semiconductors; PartNumber: SA56004ETK,118; Accuracy on-chip (degC): 2@60 to 100 / 3@-40 to 125; Accuracy remote (degC): 1@60 to 100 / 3@-40 to 125; Assignable addresses: 1; SMBus clock (kHz): 400; Standby current (uA): 10; DatasheetVersion: Rev. 7; PackageVersion: 09-08-28, 08/2009; PackageReference: SOT782-1; PackageDescription: 8-Pin Plastic Thermal Enhanced Very Thin Small Outline Package, Body 3 x 3 mm, Pitch 0.65 mm, Thermal Pad 2.4 x 1.6 mm; Supplier 1: Digi-Key; Supplier Part Number 1: 568-7581-2-ND; Supplier 2: Digi-Key; Supplier Part Number 2: 568-7581-1-ND; Supplier 3: Digi-Key; Supplier Part Number 3: 568-7581-6-ND; Supplier 4: Newark; Supplier Part Number 4: 74T5036; Supplier 5: Mouser; Supplier Part Number 5: 771-SA56004ETK,118; Operating Voltage (VDC): 3.0 to 5.5; Packing: Reel; Mounting Technology: Surface Mount; Code_JEDEC: MO-229; ComponentLink1Description: Manufacturer URL; ComponentLink1URL: http://www.nxp.com/; ComponentLink2Description: Datasheet; ComponentLink2URL: http://www.nxp.com/documents/data_sheet/SA56004X.pdf; ComponentLink3Description: Package Specification; ComponentLink3URL: http://www.nxp.com/documents/outline_drawing/sot782-1_po.pdf
footprint NXP-SOT782-1_N (PSON, 8-Leads, Body 3.1x3.1mm, Pitch 0.65mm, Thermal Pad 2.4x1.6mm, IPC Medium Density)
footprint NXP-SOT782-1_L (PSON, 8-Leads, Body 3.1x3.1mm, Pitch 0.65mm, Thermal Pad 2.4x1.6mm, IPC High Density)
footprint NXP-SOT782-1_M (PSON, 8-Leads, Body 3.1x3.1mm, Pitch 0.65mm, Thermal Pad 2.4x1.6mm, IPC Low Density)
pins: 1 VDD (power) "Positive supply voltage. DC voltage from 3.0 V to 5.5 V.", 2 D+ "Diode current source (anode).", 3 D- "Diode sink current (cathode).", 4 ~{T_CRIT} (oc) "T\_\C\R\I\T\ alarm is open-drain, active LOW output which requires an external pull-up resistor. It functions as a system interrupt or power shutdown.", 5 GND (power) "Power supply ground.", 6 ~{ALERT} (oc) "A\L\E\R\T\ alarm is an open-drain, active LOW output which requires an external pull-up resistor. It functions as an interrupt indicating that the temperature of the on-chip or remote diode is above or below programmed (See Datasheet)", 7 SDATA (io) "SMBus/I2C-bus bidirectional data line. This is an open-drain output which requires an external pull-up resistor.", 8 SCLK (in) "SMBus/I2C-bus clock input which requires an external pull-up resistor.", 9 EP

## SA56004FD,112
designator U?
SMBus-Compatible, Remote / Local Digital Temperature Sensor with Overtemperature Alarms, 3.0 to 5.5 V Supply, -40 to 125 degC, 8-Pin SOT96-1, RoHS, Tube, Bulk; Manufacturer: NXP Semiconductors; PartNumber: SA56004FD,112; Accuracy on-chip (degC): 2@60 to 100 / 3@-40 to 125; Accuracy remote (degC): 1@60 to 100 / 3@-40 to 125; Assignable addresses: 1; SMBus clock (kHz): 400; Standby current (uA): 10; Code_IEC: 76000; DatasheetVersion: Rev. 7; PackageVersion: 03-02-18, 02/2003; PackageReference: SOT96-1; PackageDescription: 8-Pin Plastic Small Outline Package, Body 4.9 x 3.9 mm, Pitch 1.27 mm; Supplier 1: Digi-Key; Supplier Part Number 1: 568-3339-5-ND; Supplier 2: Mouser; Supplier Part Number 2: 771-SA56004FD112; Operating Voltage (VDC): 3.0 to 5.5; Packing: Tube, Bulk; Mounting Technology: Surface Mount; Code_JEDEC: MS-012; ComponentLink1Description: Manufacturer URL; ComponentLink1URL: http://www.nxp.com/; ComponentLink2Description: Datasheet; ComponentLink2URL: http://www.nxp.com/documents/data_sheet/SA56004X.pdf; ComponentLink3Description: Package Specification; ComponentLink3URL: http://www.nxp.com/documents/outline_drawing/sot096-1_po.pdf
footprint NXP-SOT96-1_N (SOIC, 8-Leads, Body 5x4mm, Pitch 1.27mm, IPC Medium Density)
footprint NXP-SOT96-1_L (SOIC, 8-Leads, Body 5x4mm, Pitch 1.27mm, IPC High Density)
footprint NXP-SOT96-1_M (SOIC, 8-Leads, Body 5x4mm, Pitch 1.27mm, IPC Low Density)
pins: 1 VDD (power) "Positive supply voltage. DC voltage from 3.0 V to 5.5 V.", 2 D+ "Diode current source (anode).", 3 D- "Diode sink current (cathode).", 4 ~{T_CRIT} (oc) "T\_\C\R\I\T\ alarm is open-drain, active LOW output which requires an external pull-up resistor. It functions as a system interrupt or power shutdown.", 5 GND (power) "Power supply ground.", 6 ~{ALERT} (oc) "A\L\E\R\T\ alarm is an open-drain, active LOW output which requires an external pull-up resistor. It functions as an interrupt indicating that the temperature of the on-chip or remote diode is above or below programmed (See Datasheet)", 7 SDATA (io) "SMBus/I2C-bus bidirectional data line. This is an open-drain output which requires an external pull-up resistor.", 8 SCLK (in) "SMBus/I2C-bus clock input which requires an external pull-up resistor."

## SA56004FD,118
designator U?
SMBus-Compatible, Remote / Local Digital Temperature Sensor with Overtemperature Alarms, 3.0 to 5.5 V Supply, -40 to 125 degC, 8-Pin SOT96-1, RoHS, Reel; Manufacturer: NXP Semiconductors; PartNumber: SA56004FD,118; Accuracy on-chip (degC): 2@60 to 100 / 3@-40 to 125; Accuracy remote (degC): 1@60 to 100 / 3@-40 to 125; Assignable addresses: 1; SMBus clock (kHz): 400; Standby current (uA): 10; Code_IEC: 76000; DatasheetVersion: Rev. 7; PackageVersion: 03-02-18, 02/2003; PackageReference: SOT96-1; PackageDescription: 8-Pin Plastic Small Outline Package, Body 4.9 x 3.9 mm, Pitch 1.27 mm; Supplier 1: Digi-Key; Supplier Part Number 1: SA56004FD,118-ND; Supplier 2: Mouser; Supplier Part Number 2: 771-SA56004FD118; Operating Voltage (VDC): 3.0 to 5.5; Packing: Reel; Mounting Technology: Surface Mount; Code_JEDEC: MS-012; ComponentLink1Description: Manufacturer URL; ComponentLink1URL: http://www.nxp.com/; ComponentLink2Description: Datasheet; ComponentLink2URL: http://www.nxp.com/documents/data_sheet/SA56004X.pdf; ComponentLink3Description: Package Specification; ComponentLink3URL: http://www.nxp.com/documents/outline_drawing/sot096-1_po.pdf
footprint NXP-SOT96-1_N (SOIC, 8-Leads, Body 5x4mm, Pitch 1.27mm, IPC Medium Density)
footprint NXP-SOT96-1_L (SOIC, 8-Leads, Body 5x4mm, Pitch 1.27mm, IPC High Density)
footprint NXP-SOT96-1_M (SOIC, 8-Leads, Body 5x4mm, Pitch 1.27mm, IPC Low Density)
pins: 1 VDD (power) "Positive supply voltage. DC voltage from 3.0 V to 5.5 V.", 2 D+ "Diode current source (anode).", 3 D- "Diode sink current (cathode).", 4 ~{T_CRIT} (oc) "T\_\C\R\I\T\ alarm is open-drain, active LOW output which requires an external pull-up resistor. It functions as a system interrupt or power shutdown.", 5 GND (power) "Power supply ground.", 6 ~{ALERT} (oc) "A\L\E\R\T\ alarm is an open-drain, active LOW output which requires an external pull-up resistor. It functions as an interrupt indicating that the temperature of the on-chip or remote diode is above or below programmed (See Datasheet)", 7 SDATA (io) "SMBus/I2C-bus bidirectional data line. This is an open-drain output which requires an external pull-up resistor.", 8 SCLK (in) "SMBus/I2C-bus clock input which requires an external pull-up resistor."

## SA56004FDP,118
designator U?
SMBus-Compatible, Remote / Local Digital Temperature Sensor with Overtemperature Alarms, 3.0 to 5.5 V Supply, -40 to 125 degC, 8-Pin SOT505-1, RoHS, Reel; Manufacturer: NXP Semiconductors; PartNumber: SA56004FDP,118; Accuracy on-chip (degC): 2@60 to 100 / 3@-40 to 125; Accuracy remote (degC): 1@60 to 100 / 3@-40 to 125; Assignable addresses: 1; SMBus clock (kHz): 400; Standby current (uA): 10; DatasheetVersion: Rev. 7; PackageVersion: 03-02-18, 02/2003; PackageReference: SOT505-1; PackageDescription: 8-Pin Plastic Thin Shrink Small Outline Package, Body 3 x 3 mm, Pitch 0.65 mm; Supplier 1: Digi-Key; Supplier Part Number 1: 568-3340-2-ND; Supplier 2: Digi-Key; Supplier Part Number 2: 568-3340-1-ND; Supplier 3: Digi-Key; Supplier Part Number 3: 568-3340-6-ND; Supplier 4: Mouser; Supplier Part Number 4: 771-SA56004FDP118; Operating Voltage (VDC): 3.0 to 5.5; Packing: Reel; Mounting Technology: Surface Mount; ComponentLink1Description: Manufacturer URL; ComponentLink1URL: http://www.nxp.com/; ComponentLink2Description: Datasheet; ComponentLink2URL: http://www.nxp.com/documents/data_sheet/SA56004X.pdf; ComponentLink3Description: Package Specification; ComponentLink3URL: http://www.nxp.com/documents/outline_drawing/sot505-1_po.pdf
footprint NXP-SOT505-1_N (TSOP, 8-Leads, Body 3.1x3.1mm, Pitch 0.65mm, IPC Medium Density)
footprint NXP-SOT505-1_L (TSOP, 8-Leads, Body 3.1x3.1mm, Pitch 0.65mm, IPC High Density)
footprint NXP-SOT505-1_M (TSOP, 8-Leads, Body 3.1x3.1mm, Pitch 0.65mm, IPC Low Density)
pins: 1 VDD (power) "Positive supply voltage. DC voltage from 3.0 V to 5.5 V.", 2 D+ "Diode current source (anode).", 3 D- "Diode sink current (cathode).", 4 ~{T_CRIT} (oc) "T\_\C\R\I\T\ alarm is open-drain, active LOW output which requires an external pull-up resistor. It functions as a system interrupt or power shutdown.", 5 GND (power) "Power supply ground.", 6 ~{ALERT} (oc) "A\L\E\R\T\ alarm is an open-drain, active LOW output which requires an external pull-up resistor. It functions as an interrupt indicating that the temperature of the on-chip or remote diode is above or below programmed (See Datasheet)", 7 SDATA (io) "SMBus/I2C-bus bidirectional data line. This is an open-drain output which requires an external pull-up resistor.", 8 SCLK (in) "SMBus/I2C-bus clock input which requires an external pull-up resistor."

## SA56004GD,118
designator U?
SMBus-Compatible, Remote / Local Digital Temperature Sensor with Overtemperature Alarms, 3.0 to 5.5 V Supply, -40 to 125 degC, 8-Pin SOT96-1, RoHS, Reel; Manufacturer: NXP Semiconductors; PartNumber: SA56004GD,118; Accuracy on-chip (degC): 2@60 to 100 / 3@-40 to 125; Accuracy remote (degC): 1@60 to 100 / 3@-40 to 125; Assignable addresses: 1; SMBus clock (kHz): 400; Standby current (uA): 10; Code_IEC: 76000; DatasheetVersion: Rev. 7; PackageVersion: 03-02-18, 02/2003; PackageReference: SOT96-1; PackageDescription: 8-Pin Plastic Small Outline Package, Body 4.9 x 3.9 mm, Pitch 1.27 mm; Supplier 1: Digi-Key; Supplier Part Number 1: SA56004GD,118-ND; Supplier 2: Mouser; Supplier Part Number 2: 771-SA56004GD118; Operating Voltage (VDC): 3.0 to 5.5; Packing: Reel; Mounting Technology: Surface Mount; Code_JEDEC: MS-012; ComponentLink1Description: Manufacturer URL; ComponentLink1URL: http://www.nxp.com/; ComponentLink2Description: Datasheet; ComponentLink2URL: http://www.nxp.com/documents/data_sheet/SA56004X.pdf; ComponentLink3Description: Package Specification; ComponentLink3URL: http://www.nxp.com/documents/outline_drawing/sot096-1_po.pdf
footprint NXP-SOT96-1_N (SOIC, 8-Leads, Body 5x4mm, Pitch 1.27mm, IPC Medium Density)
footprint NXP-SOT96-1_L (SOIC, 8-Leads, Body 5x4mm, Pitch 1.27mm, IPC High Density)
footprint NXP-SOT96-1_M (SOIC, 8-Leads, Body 5x4mm, Pitch 1.27mm, IPC Low Density)
pins: 1 VDD (power) "Positive supply voltage. DC voltage from 3.0 V to 5.5 V.", 2 D+ "Diode current source (anode).", 3 D- "Diode sink current (cathode).", 4 ~{T_CRIT} (oc) "T\_\C\R\I\T\ alarm is open-drain, active LOW output which requires an external pull-up resistor. It functions as a system interrupt or power shutdown.", 5 GND (power) "Power supply ground.", 6 ~{ALERT} (oc) "A\L\E\R\T\ alarm is an open-drain, active LOW output which requires an external pull-up resistor. It functions as an interrupt indicating that the temperature of the on-chip or remote diode is above or below programmed (See Datasheet)", 7 SDATA (io) "SMBus/I2C-bus bidirectional data line. This is an open-drain output which requires an external pull-up resistor.", 8 SCLK (in) "SMBus/I2C-bus clock input which requires an external pull-up resistor."

## SA56004GDP,118
designator U?
SMBus-Compatible, Remote / Local Digital Temperature Sensor with Overtemperature Alarms, 3.0 to 5.5 V Supply, -40 to 125 degC, 8-Pin SOT505-1, RoHS, Reel; Manufacturer: NXP Semiconductors; PartNumber: SA56004GDP,118; Accuracy on-chip (degC): 2@60 to 100 / 3@-40 to 125; Accuracy remote (degC): 1@60 to 100 / 3@-40 to 125; Assignable addresses: 1; SMBus clock (kHz): 400; Standby current (uA): 10; DatasheetVersion: Rev. 7; PackageVersion: 03-02-18, 02/2003; PackageReference: SOT505-1; PackageDescription: 8-Pin Plastic Thin Shrink Small Outline Package, Body 3 x 3 mm, Pitch 0.65 mm; Supplier 1: Digi-Key; Supplier Part Number 1: 568-3342-2-ND; Supplier 2: Digi-Key; Supplier Part Number 2: 568-3342-1-ND; Supplier 3: Digi-Key; Supplier Part Number 3: 568-3342-6-ND; Supplier 4: Mouser; Supplier Part Number 4: 771-SA56004GDP118; Operating Voltage (VDC): 3.0 to 5.5; Packing: Reel; Mounting Technology: Surface Mount; ComponentLink1Description: Manufacturer URL; ComponentLink1URL: http://www.nxp.com/; ComponentLink2Description: Datasheet; ComponentLink2URL: http://www.nxp.com/documents/data_sheet/SA56004X.pdf; ComponentLink3Description: Package Specification; ComponentLink3URL: http://www.nxp.com/documents/outline_drawing/sot505-1_po.pdf
footprint NXP-SOT505-1_N (TSOP, 8-Leads, Body 3.1x3.1mm, Pitch 0.65mm, IPC Medium Density)
footprint NXP-SOT505-1_L (TSOP, 8-Leads, Body 3.1x3.1mm, Pitch 0.65mm, IPC High Density)
footprint NXP-SOT505-1_M (TSOP, 8-Leads, Body 3.1x3.1mm, Pitch 0.65mm, IPC Low Density)
pins: 1 VDD (power) "Positive supply voltage. DC voltage from 3.0 V to 5.5 V.", 2 D+ "Diode current source (anode).", 3 D- "Diode sink current (cathode).", 4 ~{T_CRIT} (oc) "T\_\C\R\I\T\ alarm is open-drain, active LOW output which requires an external pull-up resistor. It functions as a system interrupt or power shutdown.", 5 GND (power) "Power supply ground.", 6 ~{ALERT} (oc) "A\L\E\R\T\ alarm is an open-drain, active LOW output which requires an external pull-up resistor. It functions as an interrupt indicating that the temperature of the on-chip or remote diode is above or below programmed (See Datasheet)", 7 SDATA (io) "SMBus/I2C-bus bidirectional data line. This is an open-drain output which requires an external pull-up resistor.", 8 SCLK (in) "SMBus/I2C-bus clock input which requires an external pull-up resistor."